# Altium schematic symbol library TPS1H200AQDGNRQ1.SchLib: 1 symbol
Pins are listed as number, name and electrical type; pins without a type are passive.

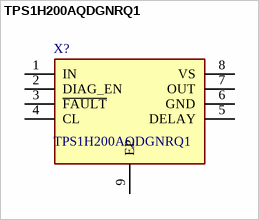
[diagram p0: symbol TPS1H200AQDGNRQ1]

## TPS1H200AQDGNRQ1
designator X?
40V, 200 mOhm, Single-Channel Smart High-Side Switch; Manufacturer_Name: Texas Instruments; Geometry.Height: 1.1mm; Mouser Part Number: 595-TPS1H200AQDGNRQ1; Mouser Price/Stock: https://www.mouser.co.uk/ProductDetail/Texas-Instruments/TPS1H200AQDGNRQ1?qs=F5EMLAvA7IDNvXmqHu%252BVIg%3D%3D; Manufacturer_Part_Number: TPS1H200AQDGNRQ1; Datasheet Link: http://www.ti.com/lit/gpn/tps1h200a-q1
footprint SOP65P490X110-9N
pins: 1 IN, 2 DIAG_EN, 3 ~{FAULT}, 4 CL, 5 DELAY, 6 GND, 7 OUT, 8 VS, 9 EP